# Altium footprint library QFN.PcbLib: 22 footprints (part 1 of 2)
Each footprint in its own frame and in the unit in brackets; x right, y up, seen from the top. Pads: shape width x height; smd on the part's side, far side on the other; paste and mask are expansions set on the pad; w line width, h text height; cw(c..) or ccw(c..) is an arc to the next point about the centre after c.
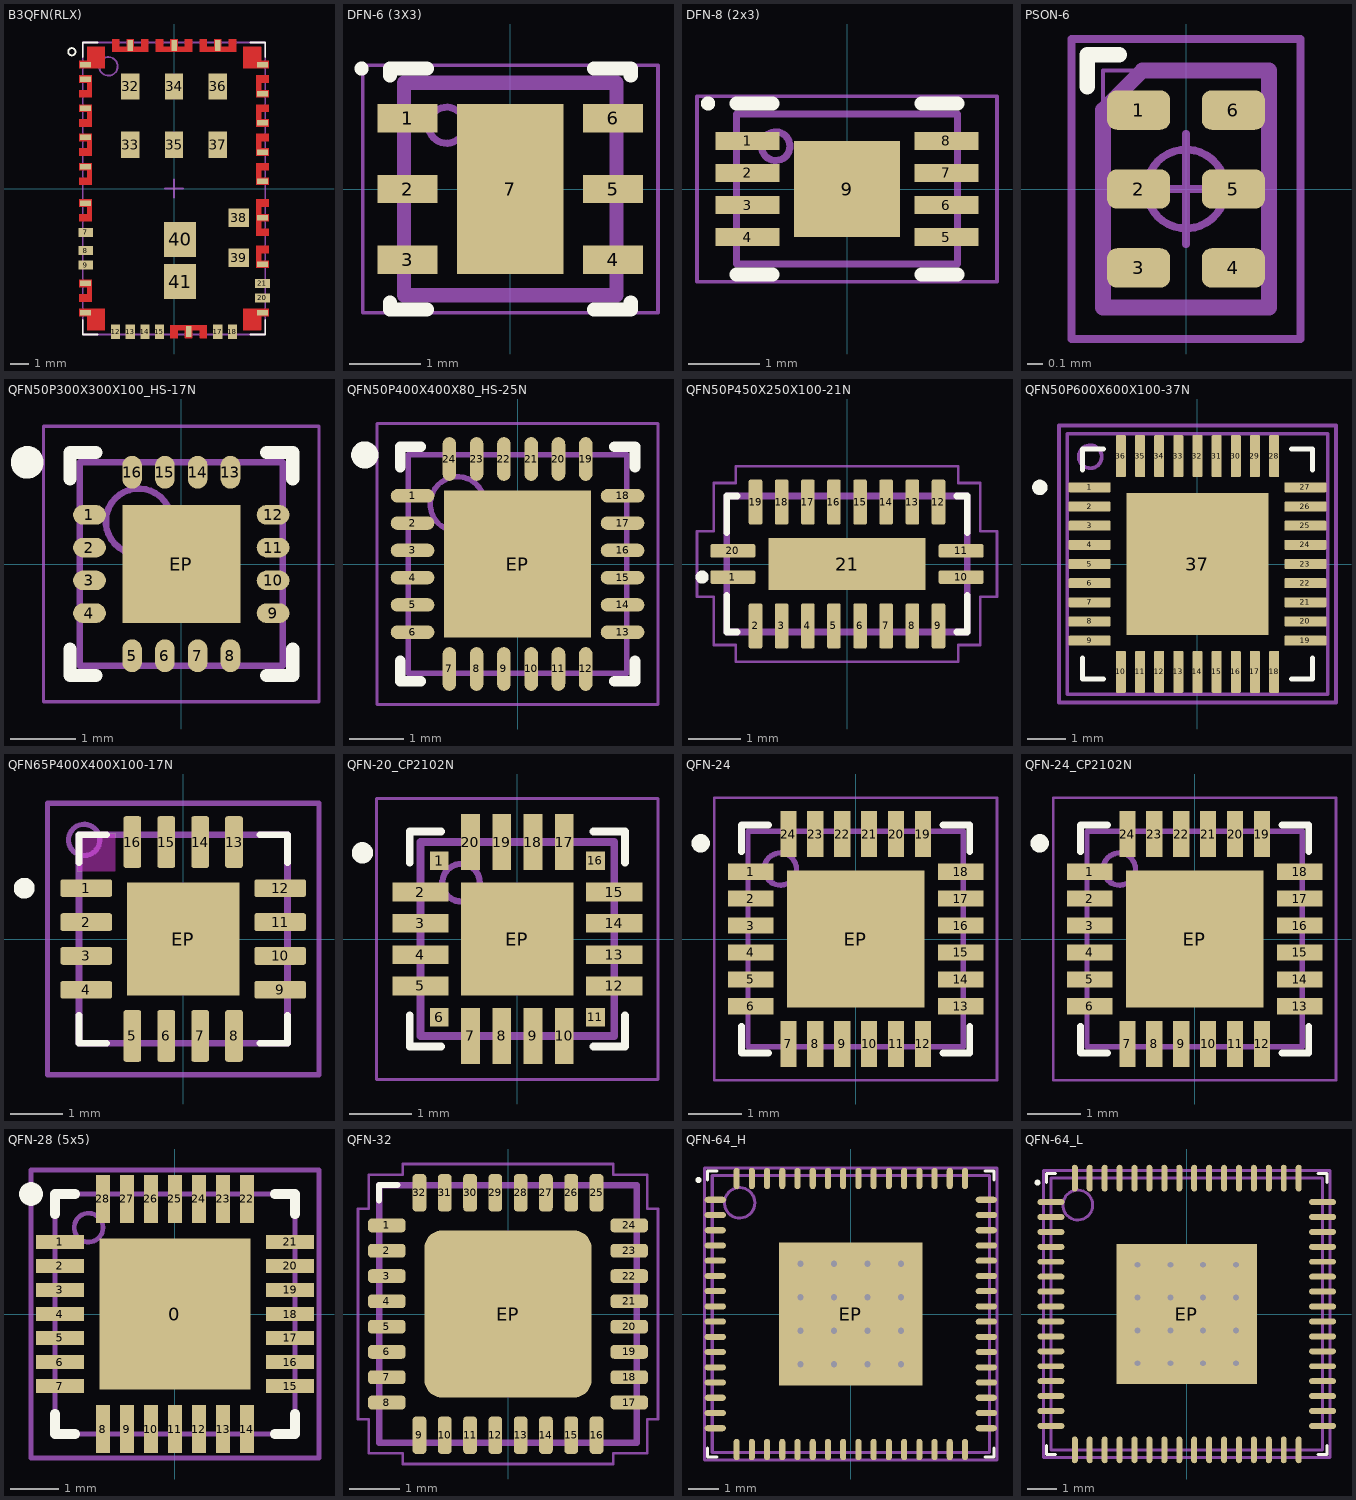
[diagram p0: the footprints below, top view; thin cyan lines are the x and y axes]

## B3QFN(RLX) [mm] "B3QFN, 41-Leads, Body 10.00x16.00mm"
height 4.1
pads (41):
  rect 0.6x0.3 smd mask+0.1: 1(-4.85,6.8) 2(-4.85,6) 3(-4.85,4.4) 4(-4.85,2.8) 5(-4.85,1.2) 6(-4.85,-0.8) 10(-4.85,-5.2) 11(-4.85,-6.8) 19(4.85,-6.8) 22(4.85,-4.15) 23(4.85,-1.6) 24(4.85,0.4) 25(4.85,2) 26(4.85,3.6) 27(4.85,5.2) 28(4.85,6.8)
  rect 0.8x0.5 smd mask+0.1: 7(-4.85,-2.4) 8(-4.85,-3.4) 9(-4.85,-4.2) 20(4.85,-6) 21(4.85,-5.2)
  rect 0.5x0.8 smd mask+0.1: 12(-3.2,-7.85) 13(-2.4,-7.85) 14(-1.6,-7.85) 15(-0.8,-7.85) 17(2.4,-7.85) 18(3.2,-7.85)
  rect 0.3x0.6 smd mask+0.1: 16(0.8,-7.85) 29(2.4,7.85) 30(0,7.85) 31(-2.4,7.85)
  rect 1x1.44 smd mask+0.1: 32(-2.4,5.6) 33(-2.4,2.4) 34(0,5.6) 35(0,2.4) 36(2.4,5.6) 37(2.4,2.4)
  rect 1.1x1 smd mask+0.1: 38(3.55,-1.6) 39(3.55,-3.8)
  rect 1.75x1.92 smd mask+0.1: 40(0.335,-2.79) 41(0.335,-5.11)
Top Layer:
  region: 4.5,1.8 4.5,3 5.2,3 5.2,2.6 4.77,2.6 4.77,2.2 5.2,2.2 5.2,1.8
  region: 4.5,3.4 4.5,4.6 5.2,4.6 5.2,4.2 4.77,4.2 4.77,3.8 5.2,3.8 5.2,3.4
  region: 4.5,5 4.5,6.2 5.2,6.2 5.2,5.8 4.77,5.8 4.77,5.4 5.2,5.4 5.2,5
  region: 4.5,-4.35 4.5,-3.15 5.2,-3.15 5.2,-3.55 4.77,-3.55 4.77,-3.95 5.2,-3.95 5.2,-4.35
  region: -4.5,-5 -4.5,-6.2 -5.2,-6.2 -5.2,-5.8 -4.77,-5.8 -4.77,-5.4 -5.2,-5.4 -5.2,-5
  region: -4.5,-0.6 -4.5,-1.8 -5.2,-1.8 -5.2,-1.4 -4.77,-1.4 -4.77,-1 -5.2,-1 -5.2,-0.6
  region: -4.5,6.2 -4.5,5 -5.2,5 -5.2,5.4 -4.77,5.4 -4.77,5.8 -5.2,5.8 -5.2,6.2
  region: -4.5,4.6 -4.5,3.4 -5.2,3.4 -5.2,3.8 -4.77,3.8 -4.77,4.2 -5.2,4.2 -5.2,4.6
  region: -4.5,3 -4.5,1.8 -5.2,1.8 -5.2,2.2 -4.77,2.2 -4.77,2.6 -5.2,2.6 -5.2,3
  region: -4.5,1.4 -4.5,0.2 -5.2,0.2 -5.2,0.6 -4.77,0.6 -4.77,1 -5.2,1 -5.2,1.4
  region: 4.5,0.2 4.5,1.4 5.2,1.4 5.2,1 4.77,1 4.77,0.6 5.2,0.6 5.2,0.2
  region: -2.6,7.5 -1.4,7.5 -1.4,8.2 -1.8,8.2 -1.8,7.77 -2.2,7.77 -2.2,8.2 -2.6,8.2 -2.6,7.77 -3,7.77 -3,8.2 -3.4,8.2 -3.4,7.5
  region: -0.2,7.5 1,7.5 1,8.2 0.6,8.2 0.6,7.77 0.2,7.77 0.2,8.2 -0.2,8.2 -0.2,7.77 -0.6,7.77 -0.6,8.2 -1,8.2 -1,7.5
  region: 2.2,7.5 3.4,7.5 3.4,8.2 3,8.2 3,7.77 2.6,7.77 2.6,8.2 2.2,8.2 2.2,7.77 1.8,7.77 1.8,8.2 1.4,8.2 1.4,7.5
  region: 4.5,-1.4 4.5,-2.6 5.2,-2.6 5.2,-2.2 4.77,-2.2 4.77,-1.8 5.2,-1.8 5.2,-1.4 4.77,-1.4 4.77,-1 5.2,-1 5.2,-0.6 4.5,-0.6
  region: 1,-7.5 -0.2,-7.5 -0.2,-8.2 0.2,-8.2 0.2,-7.77 0.6,-7.77 0.6,-8.2 1,-8.2 1,-7.77 1.4,-7.77 1.4,-8.2 1.8,-8.2 1.8,-7.5
  region: -3.8,6.6 -3.8,7.77 -4.77,7.77 -4.77,7.4 -4.77,7 -5.2,7 -5.2,6.6
  region: 3.8,6.6 3.8,7.77 4.77,7.77 4.77,7.4 4.77,7 5.2,7 5.2,6.6
  region: -3.8,-6.6 -3.8,-7.77 -4.77,-7.77 -4.77,-7.4 -4.77,-7 -5.2,-7 -5.2,-6.6
  region: 3.8,-6.6 3.8,-7.77 4.77,-7.77 4.77,-7.4 4.77,-7 5.2,-7 5.2,-6.6
Top Overlay:
  circle w0.1: c-5.6,7.5 r0.2
  lines w0.1: -5,-7.2 -5,-8 -4.2,-8 ; -5,7.2 -5,8 -4.2,8 ; 4.2,-8 5,-8 5,-7.2 ; 4.2,8 5,8 5,7.2
Top Assembly:
  circle w0.1: c-3.6,6.7 r0.51
  lines w0.1: -5,-8 -5,8 5,8 5,-8 -5,-8
Top Courtyard:
  lines w0.1: -0.5,0 0.5,0 ; 0,-0.5 0,0.5 ; -5,-8 -5,8 5,8 5,-8 -5,-8
3D body "RLX0041A.stp": height 4.1, standoff 0, extent -5,-8 5,8

## DFN-6 (3X3) [mm] "SON, 6-Leads, Body 3,00x3,00mm, Pitch 1,00mm, Thermal Pad 2,40x1,50mm, IPC Medium Density"
height 1
pads (7):
  rect 0.85x0.4 smd: 1(-1.45,1) 2(-1.45,0) 3(-1.45,-1) 4(1.45,-1) 5(1.45,0) 6(1.45,1)
  rect 1.5x2.4 smd: 7(0,0)
Top Overlay:
  circle w0.1: c-2.1,1.7 r0.05
  lines w0.2: -1.7,-1.6 -1.7,-1.7 -1.18,-1.7 ; -1.7,1.6 -1.7,1.7 -1.18,1.7 ; 1.18,-1.7 1.7,-1.7 1.7,-1.6 ; 1.18,1.7 1.7,1.7 1.7,1.6
Top Assembly:
  circle w0.1: c-0.9,0.9 r0.255
  lines w0.2: -1.5,-1.5 -1.5,1.5 1.5,1.5 1.5,-1.5 -1.5,-1.5
Top Courtyard:
  lines w0.05: -2.085,-1.75 -2.085,1.75 2.085,1.75 2.085,-1.75 -2.085,-1.75
  lines w0.1: -0.5,0 0.5,0 ; 0,-0.5 0,0.5
3D body "User Library-DFN6-3x3x0_80.STEP": height 0.78, standoff -0.02, extent -1.5,-1.5 1.5,1.5

## DFN-8 (2x3) [mm] "SON, 8-Leads, Body 2,00x3,00mm, Pitch 0,45mm, Thermal Pad 1,35x1,49mm, IPC Medium Density"
height 0.75
pads (9):
  rect 0.9x0.25 smd mask+0.05: 1(-1.395,0.675) 2(-1.395,0.225) 3(-1.395,-0.225) 4(-1.395,-0.675) 5(1.395,-0.675) 6(1.395,-0.225) 7(1.395,0.225) 8(1.395,0.675)
  rect 1.49x1.35 smd mask+0.05: 9(0,0)
Top Overlay:
  circle w0.1: c-1.95,1.2 r0.05
  lines w0.2: -1.55,-1.2 -1.045,-1.2 ; -1.55,1.2 -1.045,1.2 ; 1.045,-1.2 1.55,-1.2 ; 1.045,1.2 1.55,1.2
Top Assembly:
  circle w0.1: c-1,0.6 r0.2
  lines w0.1: -1.55,-1.05 1.55,-1.05 1.55,1.05 -1.55,1.05 -1.55,-1.05
Top Courtyard:
  lines w0.05: -2.105,-1.3 2.105,-1.3 2.105,1.3 -2.105,1.3 -2.105,-1.3
  lines w0.1: -0.5,0 0.5,0 ; 0,-0.5 0,0.5
3D body "SON45P300X75_HS-9N.step": height 0.75, standoff 0, extent -1.551,-1.05 1.551,1.05

## PSON-6 [mm] "PSON, 6-Leads, Body 1,45x1,00mm, Pitch 0,50mm, IPC Medium Density"
height 0.6
pads (6):
  rrect50% 0.4x0.25 smd mask+0.025: 1(-0.3,0.5) 2(-0.3,0) 3(-0.3,-0.5) 4(0.3,-0.5) 5(0.3,0) 6(0.3,0.5)
Top Overlay:
  lines w0.1: -0.625,0.65 -0.625,0.85 -0.425,0.85
Top Assembly:
  lines w0.1: -0.525,-0.75 -0.525,0.5 -0.275,0.75 0.525,0.75 0.525,-0.75 -0.525,-0.75
Top Courtyard:
  lines w0.05: -0.725,-0.95 0.725,-0.95 0.725,0.95 -0.725,0.95 -0.725,-0.95
Top Component Center:
  circle w0.05: c0,0 r0.25
  lines w0.05: -0.35,0 0.35,0 ; 0,-0.35 0,0.35
Top Component Outline:
  lines w0.025: -0.525,-0.75 0.525,-0.75 0.525,0.75 -0.525,0.75 -0.525,-0.75
3D body "PSON50P100X60-6N.step": height 0.6, standoff 0, extent -0.526,-0.75 0.526,0.75

## QFN50P300X300X100_HS-17N [mm] "QFN, 16-Leads, Body 3,00x3,00mm, Pitch 0,50mm, Thermal Pad 1,80x1,80mm, IPC Medium Density"
height 1
pads (17):
  oval 0.5x0.3 smd: 1(-1.4,0.75) 2(-1.4,0.25) 3(-1.4,-0.25) 4(-1.4,-0.75) 9(1.4,-0.75) 10(1.4,-0.25) 11(1.4,0.25) 12(1.4,0.75)
  oval 0.3x0.5 smd: 5(-0.75,-1.4) 6(-0.25,-1.4) 7(0.25,-1.4) 8(0.75,-1.4) 13(0.75,1.4) 14(0.25,1.4) 15(-0.25,1.4) 16(-0.75,1.4)
  rect 1.8x1.8 smd paste-2539.97: EP(0,0)
Top Overlay:
  circle w0.25: c-2.35,1.55 r0.125
  lines w0.2: -1.7,-1.3 -1.7,-1.7 -1.3,-1.7 ; -1.7,1.3 -1.7,1.7 -1.3,1.7 ; 1.3,-1.7 1.7,-1.7 1.7,-1.3 ; 1.3,1.7 1.7,1.7 1.7,1.3
Top Paste:
  region: -0.6,0 -0.6,0.119 -0.509,0.34 -0.34,0.509 -0.119,0.6 0,0.6 0.119,0.6 0.34,0.509 0.509,0.34 0.6,0.119 0.6,0 0.6,-0.119 0.509,-0.34 0.34,-0.509 0.119,-0.6 0,-0.6 -0.119,-0.6 -0.34,-0.509 -0.509,-0.34 -0.6,-0.119
Top Assembly:
  circle w0.1: c-0.65,0.65 r0.5
  lines w0.1: -1.55,-1.55 1.55,-1.55 1.55,1.55 -1.55,1.55 -1.55,-1.55
Top Courtyard:
  lines w0.05: -2.1,-2.1 2.1,-2.1 2.1,2.1 -2.1,2.1 -2.1,-2.1
  lines w0.1: -0.5,0 0.5,0 ; 0,-0.5 0,0.5
3D body: height 1, standoff 0.05, extent -1.55,-1.55 1.55,1.55

## QFN50P400X400X80_HS-25N [mm] "QFN, 24-Leads, Body 4,00x4,00mm, Pitch 0,50mm, Thermal Pad 2,70x2,70mm, IPC Medium Density"
height 0.8
pads (25):
  oval 0.8x0.25 smd: 1(-1.925,1.25) 2(-1.925,0.75) 3(-1.925,0.25) 4(-1.925,-0.25) 5(-1.925,-0.75) 6(-1.925,-1.25) 13(1.925,-1.25) 14(1.925,-0.75) 15(1.925,-0.25) 16(1.925,0.25) 17(1.925,0.75) 18(1.925,1.25)
  oval 0.25x0.8 smd: 7(-1.25,-1.925) 8(-0.75,-1.925) 9(-0.25,-1.925) 10(0.25,-1.925) 11(0.75,-1.925) 12(1.25,-1.925) 19(1.25,1.925) 20(0.75,1.925) 21(0.25,1.925) 22(-0.25,1.925) 23(-0.75,1.925) 24(-1.25,1.925)
  rect 2.7x2.7 smd paste-2539.97: EP(0,0)
Top Overlay:
  circle w0.25: c-2.8,2 r0.125
  lines w0.2: -2.15,-1.775 -2.15,-2.15 -1.775,-2.15 ; -2.15,1.775 -2.15,2.15 -1.775,2.15 ; 1.775,-2.15 2.15,-2.15 2.15,-1.775 ; 1.775,2.15 2.15,2.15 2.15,1.775
Top Paste:
  region: -1.3,0.7 -1.3,0.819 -1.209,1.04 -1.04,1.209 -0.819,1.3 -0.7,1.3 -0.581,1.3 -0.36,1.209 -0.191,1.04 -0.1,0.819 -0.1,0.7 -0.1,0.581 -0.191,0.36 -0.36,0.191 -0.581,0.1 -0.7,0.1 -0.819,0.1 -1.04,0.191 -1.209,0.36 -1.3,0.581
  region: 0.1,0.7 0.1,0.819 0.191,1.04 0.36,1.209 0.581,1.3 0.7,1.3 0.819,1.3 1.04,1.209 1.209,1.04 1.3,0.819 1.3,0.7 1.3,0.581 1.209,0.36 1.04,0.191 0.819,0.1 0.7,0.1 0.581,0.1 0.36,0.191 0.191,0.36 0.1,0.581
  region: 0.1,-0.7 0.1,-0.581 0.191,-0.36 0.36,-0.191 0.581,-0.1 0.7,-0.1 0.819,-0.1 1.04,-0.191 1.209,-0.36 1.3,-0.581 1.3,-0.7 1.3,-0.819 1.209,-1.04 1.04,-1.209 0.819,-1.3 0.7,-1.3 0.581,-1.3 0.36,-1.209 0.191,-1.04 0.1,-0.819
  region: -1.3,-0.7 -1.3,-0.581 -1.209,-0.36 -1.04,-0.191 -0.819,-0.1 -0.7,-0.1 -0.581,-0.1 -0.36,-0.191 -0.191,-0.36 -0.1,-0.581 -0.1,-0.7 -0.1,-0.819 -0.191,-1.04 -0.36,-1.209 -0.581,-1.3 -0.7,-1.3 -0.819,-1.3 -1.04,-1.209 -1.209,-1.04 -1.3,-0.819
Top Assembly:
  circle w0.1: c-1.1,1.1 r0.5
  lines w0.1: -2,-2 2,-2 2,2 -2,2 -2,-2
Top Courtyard:
  lines w0.05: -2.575,-2.575 2.575,-2.575 2.575,2.575 -2.575,2.575 -2.575,-2.575
  lines w0.1: -0.5,0 0.5,0 ; 0,-0.5 0,0.5
3D body: height 0.8, standoff 0.05, extent -2,-2 2,2

## QFN50P450X250X100-21N [mm]
pads (21):
  rrect25% 0.86x0.26 smd: 1(-2.185,-0.25) 10(2.185,-0.25) 11(2.185,0.25) 20(-2.185,0.25)
  rrect25% 0.26x0.86 smd: 2(-1.75,-1.185) 3(-1.25,-1.185) 4(-0.75,-1.185) 5(-0.25,-1.185) 6(0.25,-1.185) 7(0.75,-1.185) 8(1.25,-1.185) 9(1.75,-1.185) 12(1.75,1.185) 13(1.25,1.185) 14(0.75,1.185) 15(0.25,1.185) 16(-0.25,1.185) 17(-0.75,1.185) 18(-1.25,1.185) 19(-1.75,1.185)
  rect 3x1 smd paste-3: 21(0,0)
Top Overlay:
  circle w0.15: c-2.773,-0.25 r0.05
  lines w0.127: -2.3,-0.6 -2.3,-1.3 -2.1,-1.3 ; -2.3,0.6 -2.3,1.3 -2.1,1.3 ; 2.1,-1.3 2.3,-1.3 2.3,-0.6 ; 2.1,1.3 2.3,1.3 2.3,0.6
Top Paste:
  region: 1.36,-0.29 0.07,-0.29 0.07,0.29 1.36,0.29
  region: -0.07,-0.29 -1.36,-0.29 -1.36,0.29 -0.07,0.29
Top Assembly:
  lines w0.127: -2.3,-1.3 -2.3,1.3 2.3,1.3 2.3,-1.3 -2.3,-1.3
Top Courtyard:
  lines w0.05: -2.87,-0.63 -2.87,0.63 -2.55,0.63 -2.55,1.55 -2.13,1.55 -2.13,1.87 2.13,1.87 2.13,1.55 2.55,1.55 2.55,0.63 2.87,0.63 2.87,-0.63 2.55,-0.63 2.55,-1.55 2.13,-1.55 2.13,-1.87 -2.13,-1.87 -2.13,-1.55 -2.55,-1.55 -2.55,-0.63 -2.87,-0.63
3D body "step_temp.STEP": height 1, standoff 0, extent -2.25,-1.25 2.25,1.25

## QFN50P600X600X100-37N [mm]
height 1
pads (37):
  rrect25% 1.1x0.26 smd: 1(-2.815,2) 2(-2.815,1.5) 3(-2.815,1) 4(-2.815,0.5) 5(-2.815,0) 6(-2.815,-0.5) 7(-2.815,-1) 8(-2.815,-1.5) 9(-2.815,-2) 19(2.815,-2) 20(2.815,-1.5) 21(2.815,-1) 22(2.815,-0.5) 23(2.815,0) 24(2.815,0.5) 25(2.815,1) 26(2.815,1.5) 27(2.815,2)
  rrect25% 0.26x1.1 smd: 10(-2,-2.815) 11(-1.5,-2.815) 12(-1,-2.815) 13(-0.5,-2.815) 14(0,-2.815) 15(0.5,-2.815) 16(1,-2.815) 17(1.5,-2.815) 18(2,-2.815) 28(2,2.815) 29(1.5,2.815) 30(1,2.815) 31(0.5,2.815) 32(0,2.815) 33(-0.5,2.815) 34(-1,2.815) 35(-1.5,2.815) 36(-2,2.815)
  rect 3.7x3.7 smd paste-0.68: 37(0,0)
Top Overlay:
  circle w0.2: c-4.115,2 r0.1
  lines w0.127: -3,-2.45 -3,-3 -2.45,-3 ; -3,2.45 -3,3 -2.45,3 ; 2.45,-3 3,-3 3,-2.45 ; 2.45,3 3,3 3,2.45
Top Assembly:
  circle w0.1: c-2.8,2.8 r0.3
  lines w0.1: -3.615,-3.615 -3.615,3.615 3.615,3.615 3.615,-3.615 -3.615,-3.615
Top Courtyard:
  lines w0.1: -0.5,0 0.5,0 ; 0,-0.5 0,0.5 ; -3.4,-3.4 3.4,-3.4 3.4,3.4 -3.4,3.4 -3.4,-3.4
3D body "step_temp.STEP": height 1, standoff 0, extent -3,-3 3,3

## QFN65P400X400X100-17N [mm]
pads (17):
  rrect25% 0.99x0.34 smd: 1(-1.86,0.975) 2(-1.86,0.325) 3(-1.86,-0.325) 4(-1.86,-0.975) 9(1.86,-0.975) 10(1.86,-0.325) 11(1.86,0.325) 12(1.86,0.975)
  rrect25% 0.34x0.99 smd: 5(-0.975,-1.86) 6(-0.325,-1.86) 7(0.325,-1.86) 8(0.975,-1.86) 13(0.975,1.86) 14(0.325,1.86) 15(-0.325,1.86) 16(-0.975,1.86)
  rect 2.16x2.16 smd paste-2: EP(0,0)
Top Overlay:
  circle w0.2: c-3.05,0.975 r0.1
  lines w0.127: -2,-1.465 -2,-2 -1.465,-2 ; -2,1.465 -2,2 -1.465,2 ; 1.465,-2 2,-2 2,-1.465 ; 1.465,2 2,2 2,1.465
Top Paste:
  region: 0.68,-0.68 -0.68,-0.68 -0.68,0.68 0.68,0.68
Keep-Out Layer:
  region: -1.3,1.3 -2.02,1.3 -2.02,2.02 -1.3,2.02
Top Assembly:
  circle w0.1: c-1.9,1.9 r0.3
  lines w0.1: -2.605,-2.605 -2.605,2.605 2.605,2.605 2.605,-2.605 -2.605,-2.605
Top Courtyard:
  lines w0.1: -0.5,0 0.5,0 ; 0,-0.5 0,0.5
  lines w0.127: -2,-2 2,-2 2,2 -2,2 -2,-2

## QFN-20_CP2102N [mm]
height 1
pads (21):
  rect 0.3x0.3 smd: 1(-1.25,1.25) 6(-1.25,-1.25) 11(1.25,-1.25) 16(1.25,1.25)
  rect 0.9x0.3 smd: 2(-1.55,0.75) 3(-1.55,0.25) 4(-1.55,-0.25) 5(-1.55,-0.75) 12(1.55,-0.75) 13(1.55,-0.25) 14(1.55,0.25) 15(1.55,0.75)
  rect 0.3x0.9 smd: 7(-0.75,-1.55) 8(-0.25,-1.55) 9(0.25,-1.55) 10(0.75,-1.55) 17(0.75,1.55) 18(0.25,1.55) 19(-0.25,1.55) 20(-0.75,1.55)
  rect 1.8x1.8 smd paste-2: EP(0,0)
Top Overlay:
  circle w0.2: c-2.478,1.378 r0.07
  lines w0.127: -1.72,-1.22 -1.72,-1.72 -1.22,-1.72 ; -1.72,1.22 -1.72,1.72 -1.22,1.72 ; 1.22,-1.72 1.72,-1.72 1.72,-1.22 ; 1.22,1.72 1.72,1.72 1.72,1.22
Top Paste:
  region: 0.569,-0.569 -0.569,-0.569 -0.569,0.569 0.569,0.569
Top Assembly:
  circle w0.1: c-0.9,0.9 r0.3
  lines w0.127: -1.55,-1.55 1.55,-1.55 1.55,1.55 -1.55,1.55 -1.55,-1.55
Top Courtyard:
  lines w0.05: -2.25,-2.25 2.25,-2.25 2.25,2.25 -2.25,2.25 -2.25,-2.25
3D body "User Library-QFN-20.STEP": height 0.62, standoff -0.08, extent -1.5,-1.5 1.5,1.5

## QFN-24 [mm]
height 1
pads (25):
  rect 0.85x0.3 smd: 1(-1.95,1.25) 2(-1.95,0.75) 3(-1.95,0.25) 4(-1.95,-0.25) 5(-1.95,-0.75) 6(-1.95,-1.25) 13(1.95,-1.25) 14(1.95,-0.75) 15(1.95,-0.25) 16(1.95,0.25) 17(1.95,0.75) 18(1.95,1.25)
  rect 0.3x0.85 smd: 7(-1.25,-1.95) 8(-0.75,-1.95) 9(-0.25,-1.95) 10(0.25,-1.95) 11(0.75,-1.95) 12(1.25,-1.95) 19(1.25,1.95) 20(0.75,1.95) 21(0.25,1.95) 22(-0.25,1.95) 23(-0.75,1.95) 24(-1.25,1.95)
  rect 2.55x2.55 smd: EP(0,0)
Top Overlay:
  circle w0.2: c-2.878,1.778 r0.07
  lines w0.127: -2.12,-1.62 -2.12,-2.12 -1.62,-2.12 ; -2.12,1.62 -2.12,2.12 -1.62,2.12 ; 1.62,-2.12 2.12,-2.12 2.12,-1.62 ; 1.62,2.12 2.12,2.12 2.12,1.62
Top Assembly:
  circle w0.1: c-1.4,1.3 r0.3
  lines w0.1: -2,-2 2,-2 2,2 -2,2 -2,-2
Top Courtyard:
  lines w0.05: -2.625,-2.625 2.625,-2.625 2.625,2.625 -2.625,2.625 -2.625,-2.625
3D body "QFN-24 (4x4x0.9).step": height 0.92, standoff 0, extent -1.988,-2.012 2.012,1.988

## QFN-24_CP2102N [mm]
height 1
pads (25):
  rect 0.85x0.3 smd: 1(-1.95,1.25) 2(-1.95,0.75) 3(-1.95,0.25) 4(-1.95,-0.25) 5(-1.95,-0.75) 6(-1.95,-1.25) 13(1.95,-1.25) 14(1.95,-0.75) 15(1.95,-0.25) 16(1.95,0.25) 17(1.95,0.75) 18(1.95,1.25)
  rect 0.3x0.85 smd: 7(-1.25,-1.95) 8(-0.75,-1.95) 9(-0.25,-1.95) 10(0.25,-1.95) 11(0.75,-1.95) 12(1.25,-1.95) 19(1.25,1.95) 20(0.75,1.95) 21(0.25,1.95) 22(-0.25,1.95) 23(-0.75,1.95) 24(-1.25,1.95)
  rect 2.55x2.55 smd: EP(0,0)
Top Overlay:
  circle w0.2: c-2.878,1.778 r0.07
  lines w0.127: -2.12,-1.62 -2.12,-2.12 -1.62,-2.12 ; -2.12,1.62 -2.12,2.12 -1.62,2.12 ; 1.62,-2.12 2.12,-2.12 2.12,-1.62 ; 1.62,2.12 2.12,2.12 2.12,1.62
Top Assembly:
  circle w0.1: c-1.4,1.3 r0.3
  lines w0.1: -2,-2 2,-2 2,2 -2,2 -2,-2
Top Courtyard:
  lines w0.05: -2.625,-2.625 2.625,-2.625 2.625,2.625 -2.625,2.625 -2.625,-2.625
3D body "QFN-24 (4x4x0.9).step": height 0.92, standoff 0, extent -1.988,-2.012 2.012,1.988

## QFN-28 (5x5) [mm] "5x5 mm, pitch 0.5 mm, power pad, extended pads"
height 0.9
pads (30):
  rect 3.15x3.15 smd: 0(0,0)
  rect 1x0.3 smd: 1(-2.4,1.5) 2(-2.4,1) 3(-2.4,0.5) 4(-2.4,0) 5(-2.4,-0.5) 6(-2.4,-1) 7(-2.4,-1.5) 15(2.4,-1.5) 16(2.4,-1) 17(2.4,-0.5) 18(2.4,0) 19(2.4,0.5) 20(2.4,1) 21(2.4,1.5)
  rect 0.3x1 smd: 8(-1.5,-2.4) 9(-1,-2.4) 10(-0.5,-2.4) 11(0,-2.4) 12(0.5,-2.4) 13(1,-2.4) 14(1.5,-2.4) 22(1.5,2.4) 23(1,2.4) 24(0.5,2.4) 25(0,2.4) 26(-0.5,2.4) 27(-1,2.4) 28(-1.5,2.4)
  round 0.5 on Top Overlay: ""(-3,2.5)
Top Overlay:
  lines w0.2: -2.5,-2.075 -2.5,-2.5 -2.075,-2.5 ; -2.5,2.075 -2.5,2.5 -2.075,2.5 ; 2.075,-2.5 2.5,-2.5 2.5,-2.075 ; 2.075,2.5 2.5,2.5 2.5,2.075
Top Assembly:
  circle w0.1: c-1.8,1.8 r0.3
  lines w0.1: -2.5,-2.5 2.5,-2.5 2.5,2.5 -2.5,2.5 -2.5,-2.5
Top Courtyard:
  lines w0.1: -0.5,0 0.5,0 ; 0,-0.5 0,0.5 ; -3,-3 3,-3 3,3 -3,3 -3,-3
3D body "28-QFN, 0.5 mm.step": height 0.9, standoff 0, extent -2.5,-2.5 2.5,2.5

## QFN-32 [mm] "Quad Flat No-Lead (QFN with Tab), 0.50 mm pitch; 5.00 mm L X 5.00 mm W X 0.90 mm H body; QFN-32"
pads (33):
  rrect50% 0.738x0.27 smd: 1(-2.396,1.75) 2(-2.396,1.25) 3(-2.396,0.75) 4(-2.396,0.25) 5(-2.396,-0.25) 6(-2.396,-0.75) 7(-2.396,-1.25) 8(-2.396,-1.75) 17(2.396,-1.75) 18(2.396,-1.25) 19(2.396,-0.75) 20(2.396,-0.25) 21(2.396,0.25) 22(2.396,0.75) 23(2.396,1.25) 24(2.396,1.75)
  rrect50% 0.27x0.738 smd: 9(-1.75,-2.396) 10(-1.25,-2.396) 11(-0.75,-2.396) 12(-0.25,-2.396) 13(0.25,-2.396) 14(0.75,-2.396) 15(1.25,-2.396) 16(1.75,-2.396) 25(1.75,2.396) 26(1.25,2.396) 27(0.75,2.396) 28(0.25,2.396) 29(-0.25,2.396) 30(-0.75,2.396) 31(-1.25,2.396) 32(-1.75,2.396)
  rrect20% 3.3x3.3 smd paste-5: EP(0,0)
Top Overlay:
  lines w0.12: -2.55,2.245 -2.55,2.55 -2.185,2.55
Top Paste:
  region: 0.242,-0.241 0.242,-1.408 1.408,-1.408 1.408,-0.241
  rectangle: 0.242,0.242 1.408,1.408
  region: -0.241,0.242 -0.241,1.408 -1.408,1.408 -1.408,0.242
  region: -0.241,-0.241 -1.408,-0.241 -1.408,-1.408 -0.241,-1.408
Top Assembly:
  lines w0.12: -2.55,-2.55 2.55,-2.55 2.55,2.55 -2.55,2.55 -2.55,-2.55
Top Courtyard:
  circle w0.05: c0,0 r0.3
  lines w0.05: -0.5,0 0.5,0 ; 0,-0.5 0,0.5 ; -2.965,-2.085 -2.965,2.085 -2.75,2.085 -2.75,2.75 -2.085,2.75 -2.085,2.965 2.085,2.965 2.085,2.75 2.75,2.75 2.75,2.085 2.965,2.085 2.965,-2.085 2.75,-2.085 2.75,-2.75 2.085,-2.75 2.085,-2.965 -2.085,-2.965 -2.085,-2.75 -2.75,-2.75 -2.75,-2.085 -2.965,-2.085
Top Component Outline:
  lines w0.025: -2.5,-2.5 -2.5,2.5 2.5,2.5 2.5,-2.5 -2.5,-2.5
3D body "User Library-QFN32-1.sldprt": height 0.9, standoff -0.03, extent -2.5,-2.5 2.5,2.5

## QFN-64_H [mm] "QFN, 64-Leads, Body 9.00x9.00mm, Pitch 0.50mm, Thermal Pad 4.70x4.70mm, IPC High Density"
height 1
pads (65):
  oval 0.7x0.2 smd mask+0.1: 1(-4.45,3.75) 2(-4.45,3.25) 3(-4.45,2.75) 4(-4.45,2.25) 5(-4.45,1.75) 6(-4.45,1.25) 7(-4.45,0.75) 8(-4.45,0.25) 9(-4.45,-0.25) 10(-4.45,-0.75) 11(-4.45,-1.25) 12(-4.45,-1.75) 13(-4.45,-2.25) 14(-4.45,-2.75) 15(-4.45,-3.25) 16(-4.45,-3.75) 33(4.45,-3.75) 34(4.45,-3.25) 35(4.45,-2.75) 36(4.45,-2.25) 37(4.45,-1.75) 38(4.45,-1.25) 39(4.45,-0.75) 40(4.45,-0.25) 41(4.45,0.25) 42(4.45,0.75) 43(4.45,1.25) 44(4.45,1.75) 45(4.45,2.25) 46(4.45,2.75) 47(4.45,3.25) 48(4.45,3.75)
  oval 0.2x0.7 smd mask+0.1: 17(-3.75,-4.45) 18(-3.25,-4.45) 19(-2.75,-4.45) 20(-2.25,-4.45) 21(-1.75,-4.45) 22(-1.25,-4.45) 23(-0.75,-4.45) 24(-0.25,-4.45) 25(0.25,-4.45) 26(0.75,-4.45) 27(1.25,-4.45) 28(1.75,-4.45) 29(2.25,-4.45) 30(2.75,-4.45) 31(3.25,-4.45) 32(3.75,-4.45) 49(3.75,4.45) 50(3.25,4.45) 51(2.75,4.45) 52(2.25,4.45) 53(1.75,4.45) 54(1.25,4.45) 55(0.75,4.45) 56(0.25,4.45) 57(-0.25,4.45) 58(-0.75,4.45) 59(-1.25,4.45) 60(-1.75,4.45) 61(-2.25,4.45) 62(-2.75,4.45) 63(-3.25,4.45) 64(-3.75,4.45)
  rect 4.7x4.7 smd mask+0.1: EP(0,0)
via -1.65,1.65 diameter 0.5 hole 0.2
via -0.55,1.65 diameter 0.5 hole 0.2
via 0.55,1.65 diameter 0.5 hole 0.2
via 1.65,1.65 diameter 0.5 hole 0.2
via -1.65,0.55 diameter 0.5 hole 0.2
via -0.55,0.55 diameter 0.5 hole 0.2
via 0.55,0.55 diameter 0.5 hole 0.2
via 1.65,0.55 diameter 0.5 hole 0.2
via -1.65,-0.55 diameter 0.5 hole 0.2
via -0.55,-0.55 diameter 0.5 hole 0.2
via 0.55,-0.55 diameter 0.5 hole 0.2
via 1.65,-0.55 diameter 0.5 hole 0.2
via -1.65,-1.65 diameter 0.5 hole 0.2
via -0.55,-1.65 diameter 0.5 hole 0.2
via 0.55,-1.65 diameter 0.5 hole 0.2
via 1.65,-1.65 diameter 0.5 hole 0.2
Top Overlay:
  circle w0.1: c-5,4.4 r0.05
  lines w0.1: -4.7,-4.4 -4.7,-4.7 -4.4,-4.7 ; -4.7,4.4 -4.7,4.7 -4.4,4.7 ; 4.4,-4.7 4.7,-4.7 4.7,-4.4 ; 4.4,4.7 4.7,4.7 4.7,4.4
Top Assembly:
  circle w0.1: c-3.65,3.65 r0.5
  lines w0.1: -4.55,-4.55 -4.55,4.55 4.55,4.55 4.55,-4.55 -4.55,-4.55
  text ".Designator" at -0.49,-0.265 h1
Top Courtyard:
  lines w0.1: -4.8,-4.8 -4.8,4.8 4.8,4.8 4.8,-4.8 -4.8,-4.8
3D body "User Library-SiLabs QFN64 (9x9).STEP": height 0.9, standoff 0, extent -4.5,-4.5 4.5,4.5

## QFN-64_L [mm] "QFN, 64-Leads, Body 9.00x9.00mm, Pitch 0.50mm, Thermal Pad 4.70x4.70mm, IPC Low Density"
height 1
pads (65):
  oval 0.9x0.2 smd mask+0.1: 1(-4.55,3.75) 2(-4.55,3.25) 3(-4.55,2.75) 4(-4.55,2.25) 5(-4.55,1.75) 6(-4.55,1.25) 7(-4.55,0.75) 8(-4.55,0.25) 9(-4.55,-0.25) 10(-4.55,-0.75) 11(-4.55,-1.25) 12(-4.55,-1.75) 13(-4.55,-2.25) 14(-4.55,-2.75) 15(-4.55,-3.25) 16(-4.55,-3.75) 33(4.55,-3.75) 34(4.55,-3.25) 35(4.55,-2.75) 36(4.55,-2.25) 37(4.55,-1.75) 38(4.55,-1.25) 39(4.55,-0.75) 40(4.55,-0.25) 41(4.55,0.25) 42(4.55,0.75) 43(4.55,1.25) 44(4.55,1.75) 45(4.55,2.25) 46(4.55,2.75) 47(4.55,3.25) 48(4.55,3.75)
  oval 0.2x0.9 smd mask+0.1: 17(-3.75,-4.55) 18(-3.25,-4.55) 19(-2.75,-4.55) 20(-2.25,-4.55) 21(-1.75,-4.55) 22(-1.25,-4.55) 23(-0.75,-4.55) 24(-0.25,-4.55) 25(0.25,-4.55) 26(0.75,-4.55) 27(1.25,-4.55) 28(1.75,-4.55) 29(2.25,-4.55) 30(2.75,-4.55) 31(3.25,-4.55) 32(3.75,-4.55) 49(3.75,4.55) 50(3.25,4.55) 51(2.75,4.55) 52(2.25,4.55) 53(1.75,4.55) 54(1.25,4.55) 55(0.75,4.55) 56(0.25,4.55) 57(-0.25,4.55) 58(-0.75,4.55) 59(-1.25,4.55) 60(-1.75,4.55) 61(-2.25,4.55) 62(-2.75,4.55) 63(-3.25,4.55) 64(-3.75,4.55)
  rect 4.7x4.7 smd mask+0.1: EP(0,0)
via 1.65,-1.65 diameter 0.5 hole 0.2
via 0.55,-1.65 diameter 0.5 hole 0.2
via -0.55,-1.65 diameter 0.5 hole 0.2
via -1.65,-1.65 diameter 0.5 hole 0.2
via 1.65,-0.55 diameter 0.5 hole 0.2
via 0.55,-0.55 diameter 0.5 hole 0.2
via -0.55,-0.55 diameter 0.5 hole 0.2
via -1.65,-0.55 diameter 0.5 hole 0.2
via 1.65,0.55 diameter 0.5 hole 0.2
via 0.55,0.55 diameter 0.5 hole 0.2
via -0.55,0.55 diameter 0.5 hole 0.2
via -1.65,0.55 diameter 0.5 hole 0.2
via 1.65,1.65 diameter 0.5 hole 0.2
via 0.55,1.65 diameter 0.5 hole 0.2
via -0.55,1.65 diameter 0.5 hole 0.2
via -1.65,1.65 diameter 0.5 hole 0.2
Top Overlay:
  circle w0.1: c-5,4.4 r0.05
  lines w0.1: -4.7,-4.4 -4.7,-4.7 -4.4,-4.7 ; -4.7,4.4 -4.7,4.7 -4.4,4.7 ; 4.4,-4.7 4.7,-4.7 4.7,-4.4 ; 4.4,4.7 4.7,4.7 4.7,4.4
Top Assembly:
  circle w0.1: c-3.65,3.65 r0.5
  lines w0.1: -4.55,-4.55 -4.55,4.55 4.55,4.55 4.55,-4.55 -4.55,-4.55
  text ".Designator" at -0.49,-0.265 h1
Top Courtyard:
  lines w0.1: -4.8,-4.8 -4.8,4.8 4.8,4.8 4.8,-4.8 -4.8,-4.8
3D body "User Library-SiLabs QFN64 (9x9).STEP": height 0.9, standoff 0, extent -4.5,-4.5 4.5,4.5